# EAGLE library part L3GD20 (library Cool_Electricity)
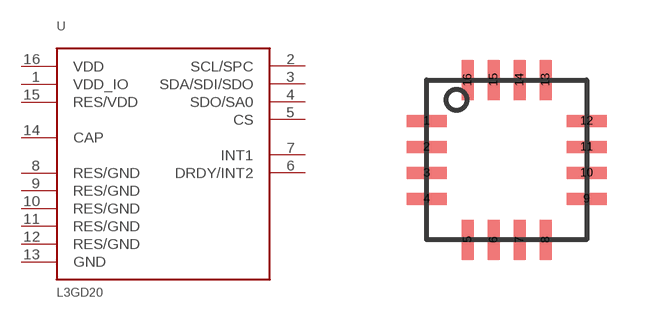
[diagram p13: symbol with the pads of LGA16_4X4_ST; footprint LGA16_4X4_ST]

Designator prefix U

## L3GD20  [LGA16_4X4_ST]
1  VDD_IO
2  SCL/SPC
3  SDA/SDI/SDO
4  SDO/SA0
5  CS
6  DRDY/INT2
7  INT1
8  RES/GND
9  RES/GND
10  RES/GND
11  RES/GND
12  RES/GND
13  GND
14  CAP
15  RES/VDD
16  VDD

## Footprint LGA16_4X4_ST (pad centres in mm)
smd 1 x 0.3: 1 -2,0.975; 2 -2,0.325; 3 -2,-0.325; 4 -2,-0.975; 9 2,-0.975; 10 2,-0.325; 11 2,0.325; 12 2,0.975
smd 0.3 x 1: 5 -0.975,-2; 6 -0.325,-2; 7 0.325,-2; 8 0.975,-2; 13 0.975,2; 14 0.325,2; 15 -0.325,2; 16 -0.975,2